# Altium footprint library Opt_PcbLib.PcbLib: 3 footprints
Each footprint in its own frame and in the unit in brackets; x right, y up, seen from the top. Pads: shape width x height; smd on the part's side, far side on the other; paste and mask are expansions set on the pad; w line width, h text height; cw(c..) or ccw(c..) is an arc to the next point about the centre after c.
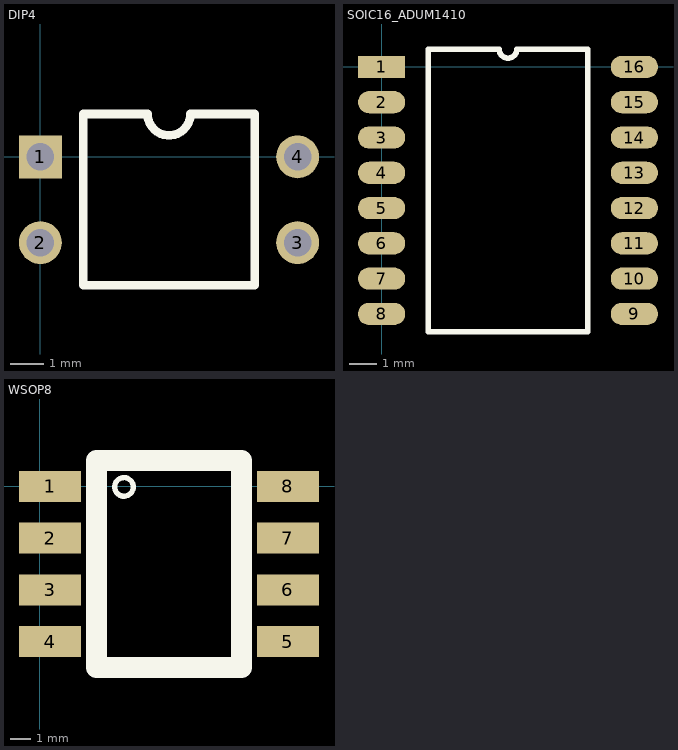
[diagram p0: the footprints below, top view; thin cyan lines are the x and y axes]

## DIP4 [mil]
pads (4):
  rect 50x50 hole 32: 1(0.47,-0.2)
  round 50 hole 32: 2(0.47,-100.2) 3(300.47,-100.2) 4(300.47,-0.2)
Top Overlay:
  lines w10: 50.47,-150.2 50.47,49.8 125.47,49.8 ccw(c150.47,49.8) 175.47,49.8 250.47,49.8 250.47,-150.2 50.47,-150.2

## SOIC16_ADUM1410 [mm]
pads (16):
  rect 1.7x0.8 smd: 1(0,0)
  oval 1.7x0.8 smd: 2(0,-1.27) 3(0,-2.54) 4(0,-3.81) 5(0,-5.08) 6(0,-6.35) 7(0,-7.62) 8(0,-8.89) 9(9.1,-8.89) 10(9.1,-7.62) 11(9.1,-6.35) 12(9.1,-5.08) 13(9.1,-3.81) 14(9.1,-2.54) 15(9.1,-1.27) 16(9.1,0)
Top Overlay:
  lines w0.2: 1.685,-9.525 1.685,0.635 4.232,0.635 ccw(c4.55,0.635) 4.867,0.635 7.415,0.635 7.415,-9.525 1.685,-9.525

## WSOP8 [mil]
pads (8):
  rect 120x60 smd: 1(20,0) 2(20,-100) 3(20,-200) 4(20,-300) 5(480,-300) 6(480,-200) 7(480,-100) 8(480,0)
Top Overlay:
  circle w10: c163,-1 r18
  lines w40: 223,50 390,50 390,-350 110,-350 110,50 225,50